# Altium footprint library ina226aidgst.PcbLib: 3 footprints
Each footprint in its own frame and in the unit in brackets; x right, y up, seen from the top. Pads: shape width x height; smd on the part's side, far side on the other; paste and mask are expansions set on the pad; w line width, h text height; cw(c..) or ccw(c..) is an arc to the next point about the centre after c.
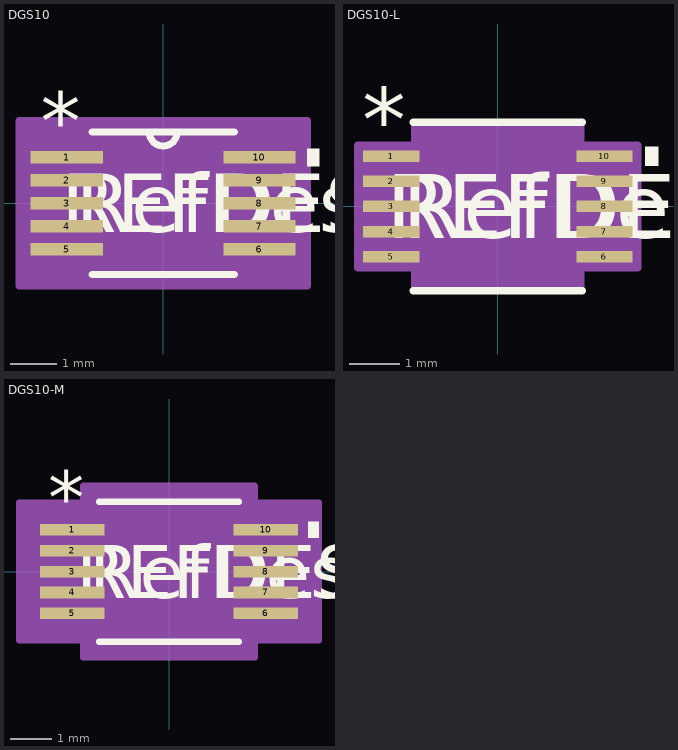
[diagram p0: the footprints below, top view; thin cyan lines are the x and y axes]

## DGS10 [mil]
pads (10):
  rect 62x11 smd paste-31 mask-31: 1(-82.5,39.37) 2(-82.5,19.68) 3(-82.5,0) 4(-82.5,-19.68) 5(-82.5,-39.37) 6(82.5,-39.37) 7(82.5,-19.68) 8(82.5,0) 9(82.5,19.68) 10(82.5,39.37)
Top Overlay:
  region: 123.5,46.87 133.5,46.87 133.5,31.87 123.5,31.87
  lines w6: -61,-61 61,-61 ; -61,61 61,61 ; -12,61 ccw(c0,61) 12,61
  text "REFDES" at -87.5,-25 h50
  text "*" at -105,45.37 h50
  text "RefDes" at -75,-25 h50
Mechanical 13:
  lines w0: -12,61 ccw(c0,61) 12,61
  lines w1: -99.5,-44.87 -99.5,-33.87 -61,-33.87 -61,-44.87 -99.5,-44.87 ; -99.5,-25.18 -99.5,-14.19 -61,-14.19 -61,-25.18 -99.5,-25.18 ; -99.5,-5.5 -99.5,5.5 -61,5.5 -61,-5.5 -99.5,-5.5 ; -99.5,14.19 -99.5,25.18 -61,25.18 -61,14.19 -99.5,14.19 ; -99.5,33.87 -99.5,44.87 -61,44.87 -61,33.87 -99.5,33.87 ; -61,-61 61,-61 61,61 -61,61 -61,-61 ; 61,-44.87 61,-33.87 99.5,-33.87 99.5,-44.87 61,-44.87 ; 61,-25.18 61,-14.19 99.5,-14.19 99.5,-25.18 61,-25.18 ; 61,-5.5 61,5.5 99.5,5.5 99.5,-5.5 61,-5.5 ; 61,14.19 61,25.18 99.5,25.18 99.5,14.19 61,14.19 ; 61,33.87 61,44.87 99.5,44.87 99.5,33.87 61,33.87
  text "*" at -105,45.37 h50
  text "RefDes2" at -87.5,-25 h50
Mechanical 15:
  region: 123.5,-71 -123.5,-71 -123.5,71 123.5,71
  lines w6: -123.5,-71 -123.5,71 123.5,71 123.5,-71 -123.5,-71
3D body "DGS10.step": height 43.11, standoff 0, extent -99.49,-60.98 99.49,60.98

## DGS10-L [mil]
pads (10):
  rect 44x9 smd paste+0 mask+0: 1(-83.5,39.37) 2(-83.5,19.68) 3(-83.5,0) 4(-83.5,-19.68) 5(-83.5,-39.37) 6(83.5,-39.37) 7(83.5,-19.68) 8(83.5,0) 9(83.5,19.68) 10(83.5,39.37)
Top Overlay:
  region: 115.5,46.87 125.5,46.87 125.5,31.87 115.5,31.87
  lines w6: -66,-66 66,-66 ; -66,66 66,66
  text "REFDES" at -87.5,-25 h50
  text "*" at -106,43.37 h50
  text "RefDes" at -75,-25 h50
Mechanical 13:
  lines w0: -12,61 ccw(c0,61) 12,61
  lines w1: -99.5,-44.87 -99.5,-33.87 -61,-33.87 -61,-44.87 -99.5,-44.87 ; -99.5,-25.18 -99.5,-14.19 -61,-14.19 -61,-25.18 -99.5,-25.18 ; -99.5,-5.5 -99.5,5.5 -61,5.5 -61,-5.5 -99.5,-5.5 ; -99.5,14.19 -99.5,25.18 -61,25.18 -61,14.19 -99.5,14.19 ; -99.5,33.87 -99.5,44.87 -61,44.87 -61,33.87 -99.5,33.87 ; -61,-61 61,-61 61,61 -61,61 -61,-61 ; 61,-44.87 61,-33.87 99.5,-33.87 99.5,-44.87 61,-44.87 ; 61,-25.18 61,-14.19 99.5,-14.19 99.5,-25.18 61,-25.18 ; 61,-5.5 61,5.5 99.5,5.5 99.5,-5.5 61,-5.5 ; 61,14.19 61,25.18 99.5,25.18 99.5,14.19 61,14.19 ; 61,33.87 61,44.87 99.5,44.87 99.5,33.87 61,33.87
  text "*" at -58.5,8 h50
  text "RefDes2" at -87.5,-25 h50
Mechanical 15:
  region: -65,-47.87 -109.5,-47.87 -109.5,47.87 -65,47.87 -65,65 65,65 65,47.87 109.5,47.87 109.5,-47.87 65,-47.87 65,-65 -65,-65
  lines w6: -109.5,-47.87 -109.5,47.87 -65,47.87 -65,65 65,65 65,47.87 109.5,47.87 109.5,-47.87 65,-47.87 65,-65 -65,-65 -65,-47.87 -109.5,-47.87
3D body "DGS10.step": height 43.11, standoff 0, extent -99.49,-60.98 99.49,60.98

## DGS10-M [mil]
pads (10):
  rect 60.5x11 smd paste+0 mask+0: 1(-91.25,39.37) 2(-91.25,19.68) 3(-91.25,0) 4(-91.25,-19.68) 5(-91.25,-39.37) 6(91.25,-39.37) 7(91.25,-19.68) 8(91.25,0) 9(91.25,19.68) 10(91.25,39.37)
Top Overlay:
  region: 131.5,46.87 141.5,46.87 141.5,31.87 131.5,31.87
  lines w6: -66,-66 66,-66 ; -66,66 66,66
  text "REFDES" at -87.5,-25 h50
  text "*" at -113.75,45.37 h50
  text "RefDes" at -75,-25 h50
Mechanical 13:
  lines w0: -12,61 ccw(c0,61) 12,61
  lines w1: -99.5,-44.87 -99.5,-33.87 -61,-33.87 -61,-44.87 -99.5,-44.87 ; -99.5,-25.18 -99.5,-14.19 -61,-14.19 -61,-25.18 -99.5,-25.18 ; -99.5,-5.5 -99.5,5.5 -61,5.5 -61,-5.5 -99.5,-5.5 ; -99.5,14.19 -99.5,25.18 -61,25.18 -61,14.19 -99.5,14.19 ; -99.5,33.87 -99.5,44.87 -61,44.87 -61,33.87 -99.5,33.87 ; -61,-61 61,-61 61,61 -61,61 -61,-61 ; 61,-44.87 61,-33.87 99.5,-33.87 99.5,-44.87 61,-44.87 ; 61,-25.18 61,-14.19 99.5,-14.19 99.5,-25.18 61,-25.18 ; 61,-5.5 61,5.5 99.5,5.5 99.5,-5.5 61,-5.5 ; 61,14.19 61,25.18 99.5,25.18 99.5,14.19 61,14.19 ; 61,33.87 61,44.87 99.5,44.87 99.5,33.87 61,33.87
  text "*" at -58.5,8 h50
  text "RefDes2" at -87.5,-25 h50
Mechanical 15:
  region: -81,-64.87 -141.5,-64.87 -141.5,64.87 -81,64.87 -81,81 81,81 81,64.87 141.5,64.87 141.5,-64.87 81,-64.87 81,-81 -81,-81
  lines w6: -141.5,-64.87 -141.5,64.87 -81,64.87 -81,81 81,81 81,64.87 141.5,64.87 141.5,-64.87 81,-64.87 81,-81 -81,-81 -81,-64.87 -141.5,-64.87
3D body "DGS10.step": height 43.11, standoff 0, extent -99.49,-60.98 99.49,60.98